# Altium schematic symbol library Microchips.SchLib: 12 symbols
Pins are listed as number, name and electrical type; pins without a type are passive.

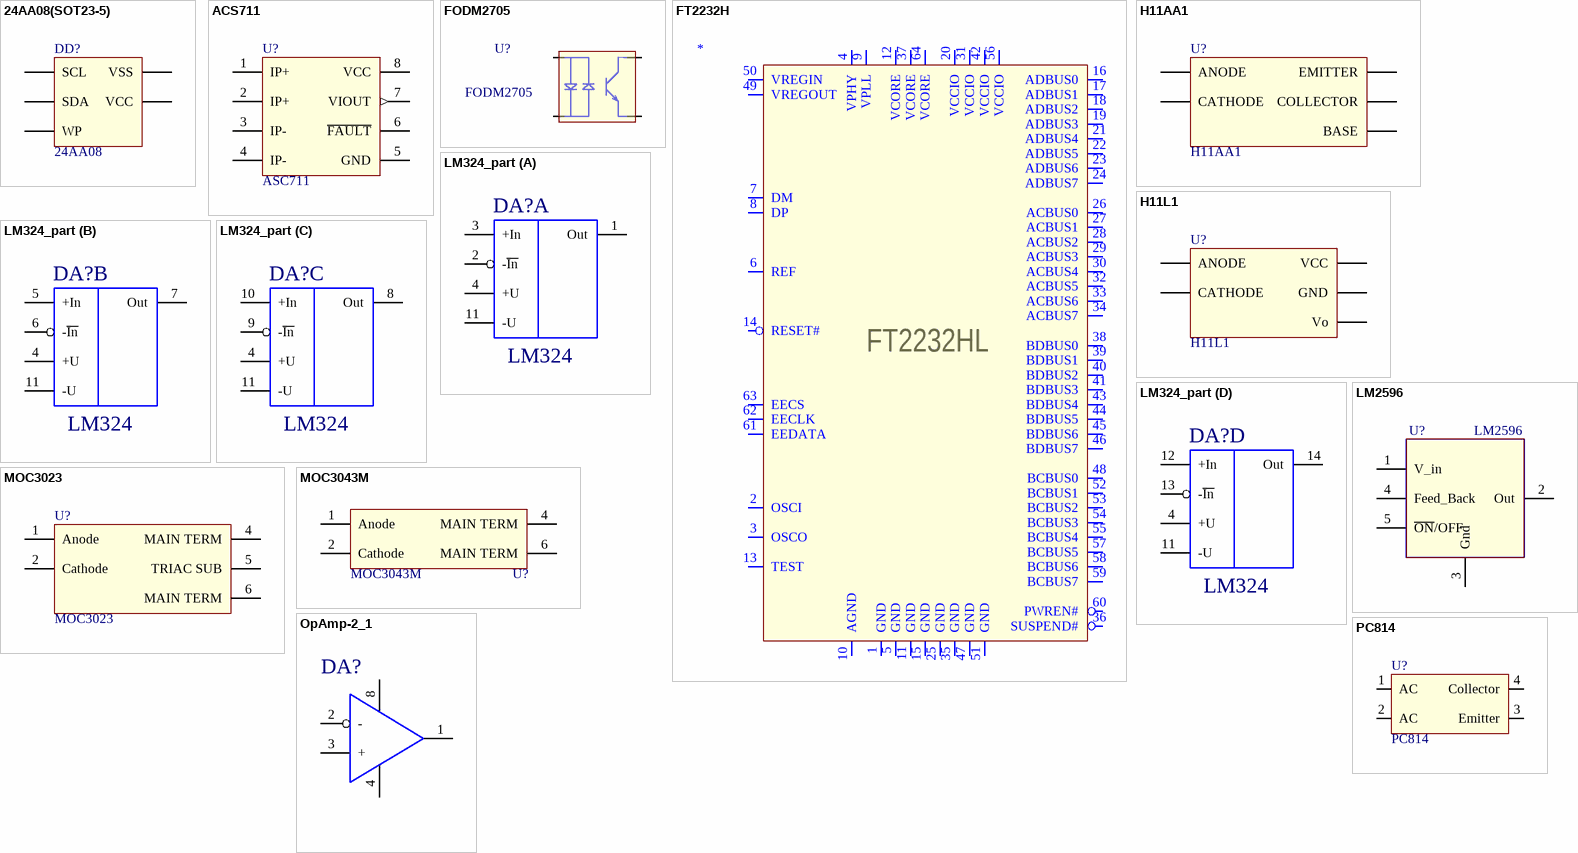
[diagram p0: symbols 24AA08(SOT23-5) to PC814]

## 24AA08(SOT23-5)
designator DD?, comment 24AA08
SOT23-5
pins: 1 SCL, 2 VSS, 3 SDA, 4 VCC, 5 WP

## ACS711
designator U?, comment ASC711
Value: ASC711
footprint SO8
pins: 1 IP+, 2 IP+, 3 IP-, 4 IP-, 5 GND (power), 6 ~{FAULT}, 7 VIOUT (out), 8 VCC (power)

## FODM2705
designator U?
pins: 1 ANODE, 2 CATHODE, 3 EMITTER, 4 COLLECTOR

## FT2232H
designator *, comment FT2232  (value not drawn)
footprint FT2232H (LQFP_64)
pins: 1 GND (power), 2 OSCI, 3 OSCO, 4 VPHY, 5 GND (power), 6 REF, 7 DM, 8 DP, 9 VPLL, 10 AGND (power), 11 GND (power), 12 VCORE (power), 13 TEST, 14 RESET#, 15 GND (power), 16 ADBUS0, 17 ADBUS1, 18 ADBUS2, 19 ADBUS3, 20 VCCIO (power), 21 ADBUS4, 22 ADBUS5, 23 ADBUS6, 24 ADBUS7, 25 GND (power), 26 ACBUS0, 27 ACBUS1, 28 ACBUS2, 29 ACBUS3, 30 ACBUS4, 31 VCCIO (power), 32 ACBUS5, 33 ACBUS6, 34 ACBUS7, 35 GND (power), 36 SUSPEND#, 37 VCORE (power), 38 BDBUS0, 39 BDBUS1, 40 BDBUS2, 41 BDBUS3, 42 VCCIO (power), 43 BDBUS4, 44 BDBUS5, 45 BDBUS6, 46 BDBUS7, 47 GND (power), 48 BCBUS0, 49 VREGOUT, 50 VREGIN, 51 GND (power), 52 BCBUS1, 53 BCBUS2, 54 BCBUS3, 55 BCBUS4, 56 VCCIO (power), 57 BCBUS5, 58 BCBUS6, 59 BCBUS7, 60 PWREN#, 61 EEDATA, 62 EECLK, 63 EECS, 64 VCORE (power)
text: FT2232HL

## H11AA1
designator U?
footprint DIP6
pins: 1 ANODE, 2 CATHODE, 4 EMITTER, 5 COLLECTOR, 6 BASE

## H11L1
designator U?
footprint DIP6
pins: 1 ANODE, 2 CATHODE, 4 VCC, 5 GND, 6 Vo

## LM324_part
designator DA?, comment LM324
footprint LM324-SOP_14
part A pins: 1 Out, 2 -~{In}, 3 +In, 4 +U, 11 -U
part B pins: 4 +U, 5 +In, 6 -~{In}, 7 Out, 11 -U
part C pins: 4 +U, 8 Out, 9 -~{In}, 10 +In, 11 -U
part D pins: 4 +U, 11 -U, 12 +In, 13 -~{In}, 14 Out

## LM2596
designator U?
Model: *
footprint TO-263-5
pins: 1 V_in (power), 2 Out (power), 3 Gnd (power), 4 Feed_Back, 5 ~{ON}/OFF

## MOC3023
designator U?
footprint DIP6
pins: 1 Anode, 2 Cathode, 4 MAIN TERM, 5 TRIAC SUB, 6 MAIN TERM

## MOC3043M
designator U?
pins: 1 Anode, 2 Cathode, 4 MAIN TERM, 6 MAIN TERM

## OpAmp-2_1
designator DA?
pins: 1  , 2 -, 3 +, 4  , 8  

## PC814
designator U?
Value: PC814; Other: *
footprint DIP4
pins: 1 AC, 2 AC, 3 Emitter, 4 Collector